# EAGLE library part 62003221821 (library Wurth_Elektronik_Electromechanic_Board_to_Board_Connectors_rev16a)
WR-PHD 2.00mm Dual Socket Header, 32 Pins=>Code : Con_BTB_SHD_2.00_2_62003221821 <http://katalog.we-online.de/media/thumbs2/eican/thb_Con_BTB_SHD_2.00_2_6200xx21821_pf2.jpg> Details see: http://katalog.we-online.de/en/em/620_0xx_218_21 Created 2014-06-03, Karrer Zheng 2014 (C) Würth Elektronik
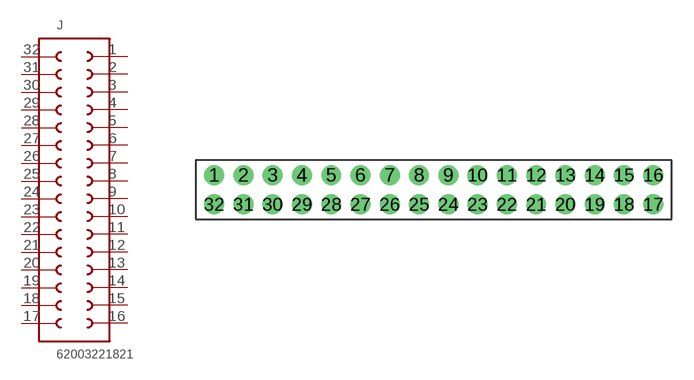
[diagram p263: symbol with the pads of 62003221821; footprint 62003221821]

Designator prefix J

## 62003221821  [62003221821]
1  1  pas
2  2  pas
3  3  pas
4  4  pas
5  5  pas
6  6  pas
7  7  pas
8  8  pas
9  9  pas
10  10  pas
11  11  pas
12  12  pas
13  13  pas
14  14  pas
15  15  pas
16  16  pas
17  17  pas
18  18  pas
19  19  pas
20  20  pas
21  21  pas
22  22  pas
23  23  pas
24  24  pas
25  25  pas
26  26  pas
27  27  pas
28  28  pas
29  29  pas
30  30  pas
31  31  pas
32  32  pas

## Footprint 62003221821 (pad centres in mm)
WR-PHD 2.00mm Dual Socket Header, 32 Pins
drill 0.85: 1 -15,1; 2 -13,1; 3 -11,1; 4 -9,1; 5 -7,1; 6 -5,1; 7 -3,1; 8 -1,1; 9 1,1; 10 3,1; 11 5,1; 12 7,1; 13 9,1; 14 11,1; 15 13,1; 16 15,1; 17 15,-1; 18 13,-1; 19 11,-1; 20 9,-1; 21 7,-1; 22 5,-1; 23 3,-1; 24 1,-1; 25 -1,-1; 26 -3,-1; 27 -5,-1; 28 -7,-1; 29 -9,-1; 30 -11,-1; 31 -13,-1; 32 -15,-1